# Altium footprint library STM32_PLC.PcbLib: 129 footprints (part 4 of 9)
Each footprint in its own frame and in the unit in brackets; x right, y up, seen from the top. Pads: shape width x height; smd on the part's side, far side on the other; paste and mask are expansions set on the pad; w line width, h text height; cw(c..) or ccw(c..) is an arc to the next point about the centre after c.
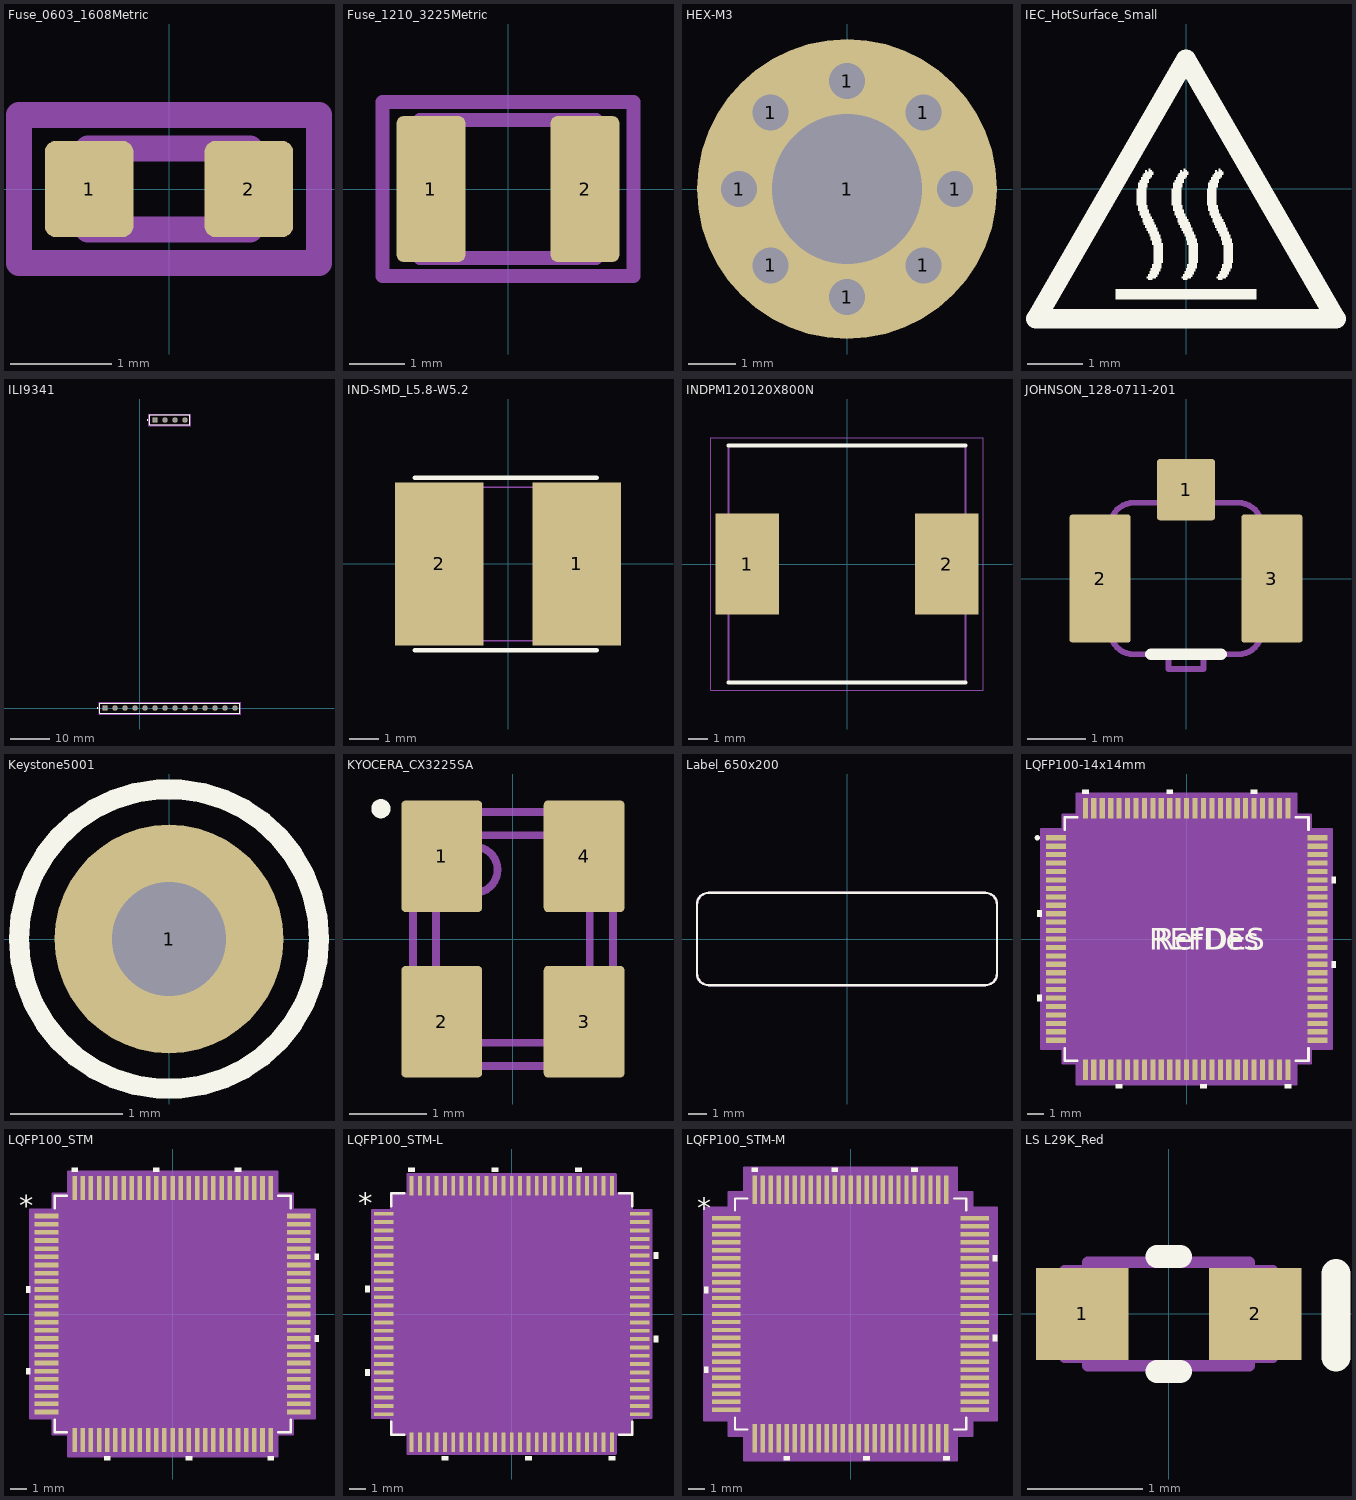
[diagram p3: the footprints below, top view; thin cyan lines are the x and y axes]

## Fuse_0603_1608Metric [mm]
pads (2):
  rrect25% 0.875x0.95 smd: 1(-0.787,0) 2(0.787,0)
Mechanical 4:
  lines w0.254: -1.48,-0.73 -1.48,0.73 1.48,0.73 1.48,-0.73 -1.48,-0.73
Mechanical 6:
  lines w0.254: -0.8,-0.4 -0.8,0.4 0.8,0.4 0.8,-0.4 -0.8,-0.4
  text "'.Designator'" at -0.573,-0.159 h0.4
3D body "Fuse_0603_1608Metric.step": height 0.45, standoff 0, extent -0.8,-0.4 0.8,0.4

## Fuse_1210_3225Metric [mm]
pads (2):
  rrect20% 1.25x2.65 smd: 1(-1.4,0) 2(1.4,0)
Mid-Layer 26:
  lines w0.254: -0.602,-1.36 0.602,-1.36 ; -0.602,1.36 0.602,1.36
Mechanical 4:
  lines w0.254: -2.28,-1.58 -2.28,1.58 2.28,1.58 2.28,-1.58 -2.28,-1.58
Mechanical 6:
  lines w0.254: -1.6,-1.25 -1.6,1.25 1.6,1.25 1.6,-1.25 -1.6,-1.25
  text "'.Designator'" at -1.15,-0.319 h0.8

## HEX-M3 [mil]
pads (9):
  round 60 hole 30 mask+0: 1(-90,0) 1(-63.64,-63.64) 1(-63.64,63.64) 1(0,-90) 1(0,90) 1(63.64,-63.64) 1(63.64,63.64) 1(90,0)
  round 250 hole 125.2: 1(0,0)

## IEC_HotSurface_Small [mm]
Top Overlay:
  drawing of 10 lines, arcs and shapes, not listed

## ILI9341 [mm]
pads (18):
  rect 1.37x1.37 hole 1.02: 01(-8.89,0) 15(3.81,73.18)
  round 1.37 hole 1.02: 02(-6.35,0) 03(-3.81,0) 04(-1.27,0) 05(1.27,0) 06(3.81,0) 07(6.35,0) 08(8.89,0) 09(11.43,0) 10(13.97,0) 11(16.51,0) 12(19.05,0) 13(21.59,0) 14(24.13,0) 16(6.35,73.18) 17(8.89,73.18) 18(11.43,73.18)
Top Overlay:
  circle w0.2: c1.89,73.18 r0.1
  circle w0.2: c-10.81,0 r0.1
  lines w0.2: -10.16,-1.27 -10.16,1.27 25.4,1.27 25.4,-1.27 -10.16,-1.27 ; 2.54,71.91 2.54,74.45 12.7,74.45 12.7,71.91 2.54,71.91
Mechanical 13:
  circle w0.2: c1.89,73.18 r0.1
  circle w0.2: c-10.81,0 r0.1
  lines w0.1: -10.16,-1.27 25.4,-1.27 ; -10.16,-1.27 -10.16,1.27 ; -10.16,-1.27 -10.16,1.27 ; -10.16,1.27 25.4,1.27 ; -10.16,1.27 25.4,1.27 ; 2.54,71.91 12.7,71.91 ; 2.54,71.91 2.54,74.45 ; 2.54,71.91 2.54,74.45 ; 2.54,74.45 12.7,74.45 ; 2.54,74.45 12.7,74.45 ; 12.7,71.91 12.7,74.45 ; 12.7,71.91 12.7,74.45 ; 25.4,-1.27 25.4,1.27 ; 25.4,-1.27 25.4,1.27
Mechanical 15:
  lines w0.05: -10.41,-1.52 25.654,-1.52 25.654,1.52 -10.41,1.52 -10.41,-1.52 ; 2.29,71.66 12.954,71.66 12.954,74.7 2.29,74.7 2.29,71.66
3D body "1x10.STEP": height 8.5, standoff -9.14, extent -10.16,-1.27 15.24,1.27
3D body "1x4.STEP": height 8.5, standoff -9.14, extent 2.54,71.91 12.7,74.45
3D body "1x4.STEP": height 8.5, standoff -9.14, extent 15.24,-1.27 25.4,1.27
3D body "TFT LCD 2.4 inch ILI9341 touch.step": height 14.3, standoff -0.1, extent -13.707,-1.987 28.987,75.167

## IND-SMD_L5.8-W5.2 [mm]
pads (2):
  rect 3x5.5 smd paste-100 mask+0.05: 1(2.325,0) 2(-2.325,0)
Top Overlay:
  lines w0.152: -3.15,-2.921 3.002,-2.921 ; -3.15,2.921 3.002,2.921
Top Paste:
  region: -2.947,-2.6 -2.947,2.6 -0.747,2.6 -0.747,-2.6
  region: 2.998,2.6 2.998,-2.6 0.798,-2.6 0.798,2.6
Mechanical 15:
  region: 2.985,-2.6 2.985,-2.625 2.95,-2.66 2.9,-2.66 2.865,-2.625 2.865,-2.6 2.865,-2.575 2.9,-2.54 2.95,-2.54 2.985,-2.575 2.985,-2.6
  region: 0.925,2.6 1.525,2.6 2.025,2.2 2.425,1.7 2.825,0.9 2.925,0 2.825,-0.9 2.425,-1.7 2.125,-2.1 1.525,-2.6 0.925,-2.6
  region: -0.875,-2.6 -1.475,-2.6 -1.975,-2.2 -2.375,-1.7 -2.775,-0.9 -2.875,0 -2.775,0.9 -2.375,1.7 -2.075,2.1 -1.475,2.6 -0.875,2.6
  lines w0.051: -2.875,0 -2.775,-0.9 -2.375,-1.7 -1.975,-2.2 -1.475,-2.6 1.525,-2.6 2.025,-2.2 2.425,-1.7 2.825,-0.9 2.925,0 2.825,0.9 2.425,1.7 2.025,2.2 1.525,2.6 -1.475,2.6 -2.075,2.1 -2.375,1.7 -2.775,0.9 -2.875,0

## INDPM120120X800N [mm]
pads (2):
  rect 3.2x5.1 smd: 1(-5.05,0) 2(5.05,0)
Top Overlay:
  lines w0.2: -6,-6 6,-6 ; -6,6 6,6
Mechanical 13:
  lines w0.05: -6.9,-6.4 -6.9,6.4 6.9,6.4 6.9,-6.4 -6.9,-6.4
  lines w0.1: -6,-6 -6,6 6,6 6,-6 -6,-6
3D body "CDRH127_LDNP-221MC.STEP": height 8, standoff 0, extent -6,-6 6,6

## JOHNSON_128-0711-201 [mm] "UMC Straight Jack Receptacle, 50 Ohm, SMT"
height 1.25
pads (3):
  rrect10% 1x1.05 smd: 1(0,1.525)
  rrect10% 1.05x2.2 smd: 2(-1.475,0) 3(1.475,0)
Top Overlay:
  lines w0.2: -0.6,-1.3 0.6,-1.3
Mechanical 5:
  lines w0.1: -0.3,1.3 -0.3,1.55 0.3,1.55 0.3,1.3 ; -1.3,-0.9 ccw(c-0.9,-0.9) -0.9,-1.3 -0.3,-1.3 -0.3,-1.55 0.3,-1.55 0.3,-1.3 0.9,-1.3 ccw(c0.9,-0.9) 1.3,-0.9 ; -1.3,-0.9 -1.5,-0.9 -1.5,0.9 -1.3,0.9 ; -1.3,-0.9 -1.3,0.9 ; -1.3,0.9 cw(c-0.9,0.9) -0.9,1.3 0.9,1.3 cw(c0.9,0.9) 1.3,0.9 ; 1.3,-0.9 1.5,-0.9 1.5,0.9 1.3,0.9 ; 1.3,-0.9 1.3,0.9
  text ".Designator" at -0.297,-0.247 h0.8
3D body "128-0711-201.stp": height 1.25, standoff 0, extent -1.5,-1.55 1.5,1.55

## Keystone5001 [mil] "For Keystone 500x miniature loop terminals"
height 181.1
pads (1):
  round 80 hole 40: 1(0,0)
Top Overlay:
  circle w7: c0,0 r52.5
Mechanical 5:
  circle w3.94: c0,0 r52.5
  text ".Designator" at -92.97,-15 h18
3D body "Keystone_5001.stp": height 181.97, standoff -118.11, extent -49,-49 49.04,49.24

## KYOCERA_CX3225SA [mm] "SMD, 4-Leads, Body 3.2x2.5mm"
height 0.9
pads (4):
  rrect10% 1.05x1.45 smd: 1(-0.925,1.075) 2(-0.925,-1.075) 3(0.925,-1.075) 4(0.925,1.075)
Top Overlay:
  circle w0.125: c-1.717,1.694 r0.062
Mechanical 5:
  circle w0.1: c-0.5,0.9 r0.3
  lines w0.1: -1.3,-1.35 cw(c-1.3,-1.65) -1,-1.65 1,-1.65 cw(c1.3,-1.65) 1.3,-1.35 1.3,1.35 cw(c1.3,1.65) 1,1.65 -1,1.65 cw(c-1.3,1.65) -1.3,1.35 -1.3,-1.35 ; -1,-1.05 ccw(c-0.7,-1.05) -0.7,-1.35 0.7,-1.35 ccw(c0.7,-1.05) 1,-1.05 1,1.05 ccw(c0.7,1.05) 0.7,1.35 -0.7,1.35 ccw(c-0.7,1.05) -1,1.05 -1,-1.05
  text ".Designator" at -0.475,-0.461 h0.8
3D body: height 0.9, standoff 0.4, extent -0.999,-1.349 0.999,1.349
3D body: height 0.6, standoff 0, extent -1.301,-1.651 1.301,1.651
3D body: height 0.9, standoff 0.8, extent -0.799,0.601 -0.201,1.199

## Label_650x200 [mil] "Thermal Transfer Label"
height 1
pads (1):
  round 1 on Mech13: 0(0,0)
Top Overlay:
  lines w5: -325,-75 ccw(c-300,-75) -300,-100 300,-100 ccw(c300,-75) 325,-75 325,75 ccw(c300,75) 300,100 -300,100 ccw(c-300,75) -325,75 -325,-75
Mechanical 5:
  lines w5: -325,-75 ccw(c-300,-75) -300,-100 300,-100 ccw(c300,-75) 325,-75 325,75 ccw(c300,75) 300,100 -300,100 ccw(c-300,75) -325,75 -325,-75
  text ".Designator" at -60,-20 h40
3D body: height 1, standoff 0, extent -325.02,-100.02 325.02,100.02

## LQFP100-14x14mm [mil]
pads (100):
  rect 47x12 smd paste+0 mask+0: 1(-305.12,236.22) 2(-305.12,216.54) 3(-305.12,196.85) 4(-305.12,177.17) 5(-305.12,157.48) 6(-305.12,137.8) 7(-305.12,118.11) 8(-305.12,98.43) 9(-305.12,78.74) 10(-305.12,59.06) 11(-305.12,39.37) 12(-305.12,19.69) 13(-305.12,0) 14(-305.12,-19.68) 15(-305.12,-39.37) 16(-305.12,-59.06) 17(-305.12,-78.74) 18(-305.12,-98.43) 19(-305.12,-118.11) 20(-305.12,-137.8) 21(-305.12,-157.48) 22(-305.12,-177.17) 23(-305.12,-196.85) 24(-305.12,-216.54) 25(-305.12,-236.22) 51(305.12,-236.22) 52(305.12,-216.54) 53(305.12,-196.85) 54(305.12,-177.17) 55(305.12,-157.48) 56(305.12,-137.8) 57(305.12,-118.11) 58(305.12,-98.43) 59(305.12,-78.74) 60(305.12,-59.06) 61(305.12,-39.37) 62(305.12,-19.68) 63(305.12,0) 64(305.12,19.68) 65(305.12,39.37) 66(305.12,59.06) 67(305.12,78.74) 68(305.12,98.43) 69(305.12,118.11) 70(305.12,137.8) 71(305.12,157.48) 72(305.12,177.17) 73(305.12,196.85) 74(305.12,216.54) 75(305.12,236.22)
  rect 12x47 smd paste+0 mask+0: 26(-236.22,-305.12) 27(-216.54,-305.12) 28(-196.85,-305.12) 29(-177.17,-305.12) 30(-157.48,-305.12) 31(-137.8,-305.12) 32(-118.11,-305.12) 33(-98.43,-305.12) 34(-78.74,-305.12) 35(-59.06,-305.12) 36(-39.37,-305.12) 37(-19.68,-305.12) 38(0,-305.12) 39(19.68,-305.12) 40(39.37,-305.12) 41(59.06,-305.12) 42(78.74,-305.12) 43(98.43,-305.12) 44(118.11,-305.12) 45(137.8,-305.12) 46(157.48,-305.12) 47(177.17,-305.12) 48(196.85,-305.12) 49(216.54,-305.12) 50(236.22,-305.12) 76(236.22,305.12) 77(216.54,305.12) 78(196.85,305.12) 79(177.17,305.12) 80(157.48,305.12) 81(137.8,305.12) 82(118.11,305.12) 83(98.43,305.12) 84(78.74,305.12) 85(59.06,305.12) 86(39.37,305.12) 87(19.68,305.12) 88(0,305.12) 89(-19.68,305.12) 90(-39.37,305.12) 91(-59.06,305.12) 92(-78.74,305.12) 93(-98.43,305.12) 94(-118.11,305.12) 95(-137.8,305.12) 96(-157.48,305.12) 97(-177.17,305.12) 98(-196.85,305.12) 99(-216.54,305.12) 100(-236.22,305.12)
Top Overlay:
  circle w6: c-348.46,236.22 r3
  region: -228.72,338.62 -243.72,338.62 -243.72,348.62 -228.72,348.62
  region: -31.87,338.62 -46.87,338.62 -46.87,348.62 -31.87,348.62
  region: 164.98,338.62 149.98,338.62 149.98,348.62 164.98,348.62
  region: 338.62,145.3 348.62,145.3 348.62,130.3 338.62,130.3
  region: 338.62,-51.56 348.62,-51.56 348.62,-66.56 338.62,-66.56
  region: 243.72,-338.62 228.72,-338.62 228.72,-348.62 243.72,-348.62
  region: 46.87,-338.62 31.87,-338.62 31.87,-348.62 46.87,-348.62
  region: -149.98,-338.62 -164.98,-338.62 -164.98,-348.62 -149.98,-348.62
  region: -338.62,-130.3 -348.62,-130.3 -348.62,-145.3 -338.62,-145.3
  region: -338.62,66.56 -348.62,66.56 -348.62,51.56 -338.62,51.56
  lines w6: -284.5,-255.32 -284.5,-284.5 -255.32,-284.5 ; -284.5,255.32 -284.5,284.5 -255.32,284.5 ; 255.32,-284.5 284.5,-284.5 284.5,-255.32 ; 255.32,284.5 284.5,284.5 284.5,255.32
  text "REFDES" at -87.5,-25 h50
  text "RefDes" at -75,-25 h50
Mechanical 13:
  circle w0: c-256.62,236.22 r3
  lines w1: -279.5,229.5 -229.5,279.5 ; -279.5,-279.5 -279.5,279.5 279.5,279.5 279.5,-279.5 -279.5,-279.5
  text "RefDes2" at -87.5,-25 h50
Mechanical 15:
  region: -256.22,-289.5 -289.5,-289.5 -289.5,-256.22 -338.62,-256.22 -338.62,256.22 -289.5,256.22 -289.5,289.5 -256.22,289.5 -256.22,338.62 256.22,338.62 256.22,289.5 289.5,289.5 289.5,256.22 338.62,256.22 338.62,-256.22 289.5,-256.22 289.5,-289.5 256.22,-289.5 256.22,-338.62 -256.22,-338.62
  lines w6: -338.62,-256.22 -338.62,256.22 -289.5,256.22 -289.5,289.5 -256.22,289.5 -256.22,338.62 256.22,338.62 256.22,289.5 289.5,289.5 289.5,256.22 338.62,256.22 338.62,-256.22 289.5,-256.22 289.5,-289.5 256.22,-289.5 256.22,-338.62 -256.22,-338.62 -256.22,-289.5 -289.5,-289.5 -289.5,-256.22 -338.62,-256.22
3D body "LQFP100-14x14mm.step": height 63.11, standoff 0, extent -314.84,-314.84 314.84,314.84

## LQFP100_STM [mil]
pads (100):
  rect 57.56x11 smd paste+0 mask+0: 1(-304,236.22) 2(-304,216.54) 3(-304,196.85) 4(-304,177.17) 5(-304,157.48) 6(-304,137.8) 7(-304,118.11) 8(-304,98.43) 9(-304,78.74) 10(-304,59.06) 11(-304,39.37) 12(-304,19.69) 13(-304,0) 14(-304,-19.68) 15(-304,-39.37) 16(-304,-59.06) 17(-304,-78.74) 18(-304,-98.43) 19(-304,-118.11) 20(-304,-137.8) 21(-304,-157.48) 22(-304,-177.17) 23(-304,-196.85) 24(-304,-216.54) 25(-304,-236.22) 51(304,-236.22) 52(304,-216.54) 53(304,-196.85) 54(304,-177.17) 55(304,-157.48) 56(304,-137.8) 57(304,-118.11) 58(304,-98.43) 59(304,-78.74) 60(304,-59.06) 61(304,-39.37) 62(304,-19.68) 63(304,0) 64(304,19.68) 65(304,39.37) 66(304,59.06) 67(304,78.74) 68(304,98.43) 69(304,118.11) 70(304,137.8) 71(304,157.48) 72(304,177.17) 73(304,196.85) 74(304,216.54) 75(304,236.22)
  rect 11x57.56 smd paste+0 mask+0: 26(-236.22,-304) 27(-216.54,-304) 28(-196.85,-304) 29(-177.17,-304) 30(-157.48,-304) 31(-137.8,-304) 32(-118.11,-304) 33(-98.43,-304) 34(-78.74,-304) 35(-59.06,-304) 36(-39.37,-304) 37(-19.68,-304) 38(0,-304) 39(19.68,-304) 40(39.37,-304) 41(59.06,-304) 42(78.74,-304) 43(98.43,-304) 44(118.11,-304) 45(137.8,-304) 46(157.48,-304) 47(177.17,-304) 48(196.85,-304) 49(216.54,-304) 50(236.22,-304) 76(236.22,304) 77(216.54,304) 78(196.85,304) 79(177.17,304) 80(157.48,304) 81(137.8,304) 82(118.11,304) 83(98.43,304) 84(78.74,304) 85(59.06,304) 86(39.37,304) 87(19.68,304) 88(0,304) 89(-19.68,304) 90(-39.37,304) 91(-59.06,304) 92(-78.74,304) 93(-98.43,304) 94(-118.11,304) 95(-137.8,304) 96(-157.48,304) 97(-177.17,304) 98(-196.85,304) 99(-216.54,304) 100(-236.22,304)
Top Overlay:
  region: -342.78,66.56 -352.78,66.56 -352.78,51.56 -342.78,51.56
  region: -342.78,-130.3 -352.78,-130.3 -352.78,-145.3 -342.78,-145.3
  region: -149.98,-342.78 -164.98,-342.78 -164.98,-352.78 -149.98,-352.78
  region: 46.87,-342.78 31.87,-342.78 31.87,-352.78 46.87,-352.78
  region: 243.72,-342.78 228.72,-342.78 228.72,-352.78 243.72,-352.78
  region: 342.78,-51.56 352.78,-51.56 352.78,-66.56 342.78,-66.56
  region: 342.78,145.3 352.78,145.3 352.78,130.3 342.78,130.3
  region: 164.98,342.78 149.98,342.78 149.98,352.78 164.98,352.78
  region: -31.87,342.78 -46.87,342.78 -46.87,352.78 -31.87,352.78
  region: -228.72,342.78 -243.72,342.78 -243.72,352.78 -228.72,352.78
  lines w6: -284.5,-254.82 -284.5,-284.5 -254.82,-284.5 ; -284.5,254.82 -284.5,284.5 -254.82,284.5 ; 254.82,-284.5 284.5,-284.5 284.5,-254.82 ; 254.82,284.5 284.5,284.5 284.5,254.82
  text "*" at -370.28,236.06 h50
  text ".Designator" at -137.5,-25 h50
Mechanical 13:
  drawing of 405 lines, arcs and shapes, not listed
  text ".Designator" at -137.5,-25 h50
  text "*" at -277,221.06 h50
Mechanical 15:
  region: -251.72,-289.5 -289.5,-289.5 -289.5,-251.72 -342.78,-251.72 -342.78,251.72 -289.5,251.72 -289.5,289.5 -251.72,289.5 -251.72,342.78 251.72,342.78 251.72,289.5 289.5,289.5 289.5,251.72 342.78,251.72 342.78,-251.72 289.5,-251.72 289.5,-289.5 251.72,-289.5 251.72,-342.78 -251.72,-342.78
  lines w6: -342.78,-251.72 -289.5,-251.72 -289.5,-289.5 -251.72,-289.5 -251.72,-342.78 251.72,-342.78 251.72,-289.5 289.5,-289.5 289.5,-251.72 342.78,-251.72 342.78,251.72 289.5,251.72 289.5,289.5 251.72,289.5 251.72,342.78 -251.72,342.78 -251.72,289.5 -289.5,289.5 -289.5,251.72 -342.78,251.72 -342.78,-251.72
3D body "LQFP100_STM.step": height 63.11, standoff 0, extent -319.02,-319.02 319.02,319.02

## LQFP100_STM-L [mm]
pads (100):
  rect 1.162x0.229 smd paste+0 mask+0: 1(-7.672,6) 2(-7.672,5.5) 3(-7.672,5) 4(-7.672,4.5) 5(-7.672,4) 6(-7.672,3.5) 7(-7.672,3) 8(-7.672,2.5) 9(-7.672,2) 10(-7.672,1.5) 11(-7.672,1) 12(-7.672,0.5) 13(-7.672,0) 14(-7.672,-0.5) 15(-7.672,-1) 16(-7.672,-1.5) 17(-7.672,-2) 18(-7.672,-2.5) 19(-7.672,-3) 20(-7.672,-3.5) 21(-7.672,-4) 22(-7.672,-4.5) 23(-7.672,-5) 24(-7.672,-5.5) 25(-7.672,-6) 51(7.672,-6) 52(7.672,-5.5) 53(7.672,-5) 54(7.672,-4.5) 55(7.672,-4) 56(7.672,-3.5) 57(7.672,-3) 58(7.672,-2.5) 59(7.672,-2) 60(7.672,-1.5) 61(7.672,-1) 62(7.672,-0.5) 63(7.672,0) 64(7.672,0.5) 65(7.672,1) 66(7.672,1.5) 67(7.672,2) 68(7.672,2.5) 69(7.672,3) 70(7.672,3.5) 71(7.672,4) 72(7.672,4.5) 73(7.672,5) 74(7.672,5.5) 75(7.672,6)
  rect 0.229x1.162 smd paste+0 mask+0: 26(-6,-7.672) 27(-5.5,-7.672) 28(-5,-7.672) 29(-4.5,-7.672) 30(-4,-7.672) 31(-3.5,-7.672) 32(-3,-7.672) 33(-2.5,-7.672) 34(-2,-7.672) 35(-1.5,-7.672) 36(-1,-7.672) 37(-0.5,-7.672) 38(0,-7.672) 39(0.5,-7.672) 40(1,-7.672) 41(1.5,-7.672) 42(2,-7.672) 43(2.5,-7.672) 44(3,-7.672) 45(3.5,-7.672) 46(4,-7.672) 47(4.5,-7.672) 48(5,-7.672) 49(5.5,-7.672) 50(6,-7.672) 76(6,7.672) 77(5.5,7.672) 78(5,7.672) 79(4.5,7.672) 80(4,7.672) 81(3.5,7.672) 82(3,7.672) 83(2.5,7.672) 84(2,7.672) 85(1.5,7.672) 86(1,7.672) 87(0.5,7.672) 88(0,7.672) 89(-0.5,7.672) 90(-1,7.672) 91(-1.5,7.672) 92(-2,7.672) 93(-2.5,7.672) 94(-3,7.672) 95(-3.5,7.672) 96(-4,7.672) 97(-4.5,7.672) 98(-5,7.672) 99(-5.5,7.672) 100(-6,7.672)
Top Overlay:
  region: -8.507,1.69 -8.761,1.69 -8.761,1.309 -8.507,1.309
  region: -8.507,-3.31 -8.761,-3.31 -8.761,-3.691 -8.507,-3.691
  region: -3.809,-8.507 -4.19,-8.507 -4.19,-8.761 -3.809,-8.761
  region: 1.191,-8.507 0.81,-8.507 0.81,-8.761 1.191,-8.761
  region: 6.191,-8.507 5.81,-8.507 5.81,-8.761 6.191,-8.761
  region: 8.507,-1.309 8.761,-1.309 8.761,-1.69 8.507,-1.69
  region: 8.507,3.691 8.761,3.691 8.761,3.31 8.507,3.31
  region: 4.19,8.507 3.809,8.507 3.809,8.761 4.19,8.761
  region: -0.81,8.507 -1.191,8.507 -1.191,8.761 -0.81,8.761
  region: -5.81,8.507 -6.191,8.507 -6.191,8.761 -5.81,8.761
  lines w0.152: -7.226,-6.447 -7.226,-7.226 -6.447,-7.226 ; -7.226,6.447 -7.226,7.226 -6.447,7.226 ; 6.447,-7.226 7.226,-7.226 7.226,-6.447 ; 6.447,7.226 7.226,7.226 7.226,6.447
  text "*" at -9.205,5.996 h1.27
  text ".Designator" at -3.492,-0.635 h1.27
Mechanical 13:
  drawing of 405 lines, arcs and shapes, not listed
  text ".Designator" at -3.492,-0.635 h1.27
  text "*" at -7.036,5.615 h1.27
Mechanical 15:
  region: -6.216,-7.201 -7.201,-7.201 -7.201,-6.216 -8.354,-6.216 -8.354,6.216 -7.201,6.216 -7.201,7.201 -6.216,7.201 -6.216,8.354 6.216,8.354 6.216,7.201 7.201,7.201 7.201,6.216 8.354,6.216 8.354,-6.216 7.201,-6.216 7.201,-7.201 6.216,-7.201 6.216,-8.354 -6.216,-8.354
  lines w0.152: -8.354,-6.216 -7.201,-6.216 -7.201,-7.201 -6.216,-7.201 -6.216,-8.354 6.216,-8.354 6.216,-7.201 7.201,-7.201 7.201,-6.216 8.354,-6.216 8.354,6.216 7.201,6.216 7.201,7.201 6.216,7.201 6.216,8.354 -6.216,8.354 -6.216,7.201 -7.201,7.201 -7.201,6.216 -8.354,6.216 -8.354,-6.216
3D body "LQFP100_STM.step": height 1.6, standoff 0, extent -8.103,-8.103 8.103,8.103

## LQFP100_STM-M [mil]
pads (100):
  rect 69.37x11 smd paste+0 mask+0: 1(-305.97,236.22) 2(-305.97,216.54) 3(-305.97,196.85) 4(-305.97,177.17) 5(-305.97,157.48) 6(-305.97,137.8) 7(-305.97,118.11) 8(-305.97,98.43) 9(-305.97,78.74) 10(-305.97,59.06) 11(-305.97,39.37) 12(-305.97,19.69) 13(-305.97,0) 14(-305.97,-19.68) 15(-305.97,-39.37) 16(-305.97,-59.06) 17(-305.97,-78.74) 18(-305.97,-98.43) 19(-305.97,-118.11) 20(-305.97,-137.8) 21(-305.97,-157.48) 22(-305.97,-177.17) 23(-305.97,-196.85) 24(-305.97,-216.54) 25(-305.97,-236.22) 51(305.97,-236.22) 52(305.97,-216.54) 53(305.97,-196.85) 54(305.97,-177.17) 55(305.97,-157.48) 56(305.97,-137.8) 57(305.97,-118.11) 58(305.97,-98.43) 59(305.97,-78.74) 60(305.97,-59.06) 61(305.97,-39.37) 62(305.97,-19.68) 63(305.97,0) 64(305.97,19.68) 65(305.97,39.37) 66(305.97,59.06) 67(305.97,78.74) 68(305.97,98.43) 69(305.97,118.11) 70(305.97,137.8) 71(305.97,157.48) 72(305.97,177.17) 73(305.97,196.85) 74(305.97,216.54) 75(305.97,236.22)
  rect 11x69.37 smd paste+0 mask+0: 26(-236.22,-305.97) 27(-216.54,-305.97) 28(-196.85,-305.97) 29(-177.17,-305.97) 30(-157.48,-305.97) 31(-137.8,-305.97) 32(-118.11,-305.97) 33(-98.43,-305.97) 34(-78.74,-305.97) 35(-59.06,-305.97) 36(-39.37,-305.97) 37(-19.68,-305.97) 38(0,-305.97) 39(19.68,-305.97) 40(39.37,-305.97) 41(59.06,-305.97) 42(78.74,-305.97) 43(98.43,-305.97) 44(118.11,-305.97) 45(137.8,-305.97) 46(157.48,-305.97) 47(177.17,-305.97) 48(196.85,-305.97) 49(216.54,-305.97) 50(236.22,-305.97) 76(236.22,305.97) 77(216.54,305.97) 78(196.85,305.97) 79(177.17,305.97) 80(157.48,305.97) 81(137.8,305.97) 82(118.11,305.97) 83(98.43,305.97) 84(78.74,305.97) 85(59.06,305.97) 86(39.37,305.97) 87(19.68,305.97) 88(0,305.97) 89(-19.68,305.97) 90(-39.37,305.97) 91(-59.06,305.97) 92(-78.74,305.97) 93(-98.43,305.97) 94(-118.11,305.97) 95(-137.8,305.97) 96(-157.48,305.97) 97(-177.17,305.97) 98(-196.85,305.97) 99(-216.54,305.97) 100(-236.22,305.97)
Top Overlay:
  region: -228.72,350.65 -243.72,350.65 -243.72,360.65 -228.72,360.65
  region: -31.87,350.65 -46.87,350.65 -46.87,360.65 -31.87,360.65
  region: 164.98,350.65 149.98,350.65 149.98,360.65 164.98,360.65
  region: 350.65,145.3 360.65,145.3 360.65,130.3 350.65,130.3
  region: 350.65,-51.56 360.65,-51.56 360.65,-66.56 350.65,-66.56
  region: 243.72,-350.65 228.72,-350.65 228.72,-360.65 243.72,-360.65
  region: 46.87,-350.65 31.87,-350.65 31.87,-360.65 46.87,-360.65
  region: -149.98,-350.65 -164.98,-350.65 -164.98,-360.65 -149.98,-360.65
  region: -350.65,-130.3 -360.65,-130.3 -360.65,-145.3 -350.65,-145.3
  region: -350.65,66.56 -360.65,66.56 -360.65,51.56 -350.65,51.56
  lines w6: -284.5,-254.82 -284.5,-284.5 -254.82,-284.5 ; -284.5,254.82 -284.5,284.5 -254.82,284.5 ; 254.82,-284.5 284.5,-284.5 284.5,-254.82 ; 254.82,284.5 284.5,284.5 284.5,254.82
  text ".Designator" at -137.5,-25 h50
  text "*" at -378.15,236.06 h50
Mechanical 13:
  drawing of 405 lines, arcs and shapes, not listed
  text "*" at -277,221.06 h50
  text ".Designator" at -137.5,-25 h50
Mechanical 15:
  region: -261.72,-299.5 -299.5,-299.5 -299.5,-261.72 -360.65,-261.72 -360.65,261.72 -299.5,261.72 -299.5,299.5 -261.72,299.5 -261.72,360.65 261.72,360.65 261.72,299.5 299.5,299.5 299.5,261.72 360.65,261.72 360.65,-261.72 299.5,-261.72 299.5,-299.5 261.72,-299.5 261.72,-360.65 -261.72,-360.65
  lines w6: -360.65,-261.72 -360.65,261.72 -299.5,261.72 -299.5,299.5 -261.72,299.5 -261.72,360.65 261.72,360.65 261.72,299.5 299.5,299.5 299.5,261.72 360.65,261.72 360.65,-261.72 299.5,-261.72 299.5,-299.5 261.72,-299.5 261.72,-360.65 -261.72,-360.65 -261.72,-299.5 -299.5,-299.5 -299.5,-261.72 -360.65,-261.72
3D body "LQFP100_STM.step": height 63.11, standoff 0, extent -319.02,-319.02 319.02,319.02

## LS L29K_Red [mm] "SMD, 2-Leads, Body 1.3x0.8mm"
height 0.67
pads (2):
  rect 0.8x0.8 smd paste-0.4: 1(-0.75,0) 2(0.75,0)
Top Overlay:
  lines w0.2: -0.1,-0.5 0.1,-0.5 ; -0.1,0.5 0.1,0.5
  lines w0.25: 1.45,-0.375 1.45,0.35
Top Paste:
  rectangle: -1.1,-0.35 -0.5,0.35
  rectangle: 0.5,-0.35 1.1,0.35
Mechanical 5:
  lines w0.1: 0.7,0.375 0.9,0.375 0.9,-0.375 0.7,-0.375 ; 0.7,-0.375 0.7,0.2 ; 0.7,-0.375 0.7,-0.45 -0.7,-0.45 -0.7,-0.375 -0.9,-0.375 -0.9,0.375 -0.7,0.375 -0.7,0.45 0.7,0.45 ; 0.7,0.2 0.45,0.45 0.7,0.45 ; 0.7,0.2 0.7,0.45
  text ".Designator" at -0.75,-0.2 h0.35
3D body: height 0.18, standoff 0, extent -0.899,-0.374 -0.701,0.374
3D body: height 0.18, standoff 0, extent 0.701,-0.374 0.899,0.374
3D body: height 0.18, standoff 0, extent -0.699,-0.449 0.699,0.449
3D body: height 0.67, standoff 0.18, extent -0.699,-0.449 0.699,0.449
3D body: height 0.67, standoff 0.65, extent 0.451,0.201 0.699,0.449